# Altium schematic symbol library SAMTEC_IPL1.SchLib: 2 symbols
Pins are listed as number, name and electrical type; pins without a type are passive.

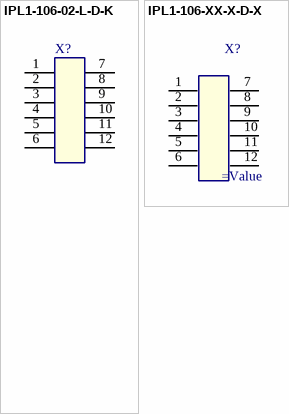
[diagram p0: symbols IPL1-106-02-L-D-K to IPL1-106-XX-X-D-X]

## IPL1-106-02-L-D-K
designator X?
pins: 1, 2, 3, 4, 5, 6, 7, 8, 9, 10, 11, 12
1 alternate drawing of the same symbol

## IPL1-106-XX-X-D-X
designator X?
2.54mm Double Row Terminal Assembly, Right-Angled
pins: 1, 2, 3, 4, 5, 6, 7, 8, 9, 10, 11, 12